# Altium footprint library BT_2898_new.PcbLib: 1 footprints
Each footprint in its own frame and in the unit in brackets; x right, y up, seen from the top. Pads: shape width x height; smd on the part's side, far side on the other; paste and mask are expansions set on the pad; w line width, h text height; cw(c..) or ccw(c..) is an arc to the next point about the centre after c.
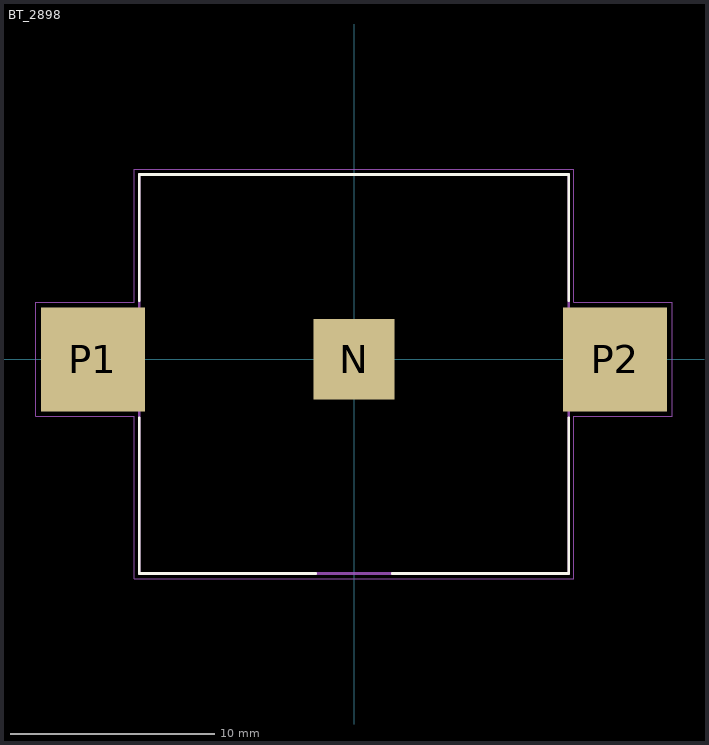
[diagram p0: the footprint, top view; thin cyan lines are the x and y axes]

## BT_2898 [mm]
height 3.68
pads (3):
  rect 3.96x3.96 smd paste-3: N(0,0)
  rect 5.1x5.1 smd: P1(-12.815,0) P2(12.815,0)
Top Overlay:
  lines w0.127: -10.54,-2.87 -10.54,-10.51 -1.87,-10.51 ; -10.54,2.87 -10.54,9.07 10.54,9.07 10.54,2.87 ; 1.87,-10.51 10.54,-10.51 10.54,-2.87
Mechanical 13:
  lines w0.127: -10.54,-10.51 10.54,-10.51 10.54,9.07 -10.54,9.07 -10.54,-10.51
Mechanical 15:
  lines w0.05: -15.615,-2.8 -15.615,2.8 -10.79,2.8 -10.79,9.32 10.79,9.32 10.79,2.8 15.615,2.8 15.615,-2.8 10.79,-2.8 10.79,-10.76 -10.79,-10.76 -10.79,-2.8 -15.615,-2.8
3D body "2898--3DModel-STEP-630548.STEP": height 3.61, standoff 0.15, extent -15.367,-10.56 15.367,9.017